# Altium schematic symbol library SCH - MCU - STM32 - ST MICROELECTRONICS STM32F411C(C-E)UX UFQFPN48.SchLib: 1 symbol
Pins are listed as number, name and electrical type; pins without a type are passive.

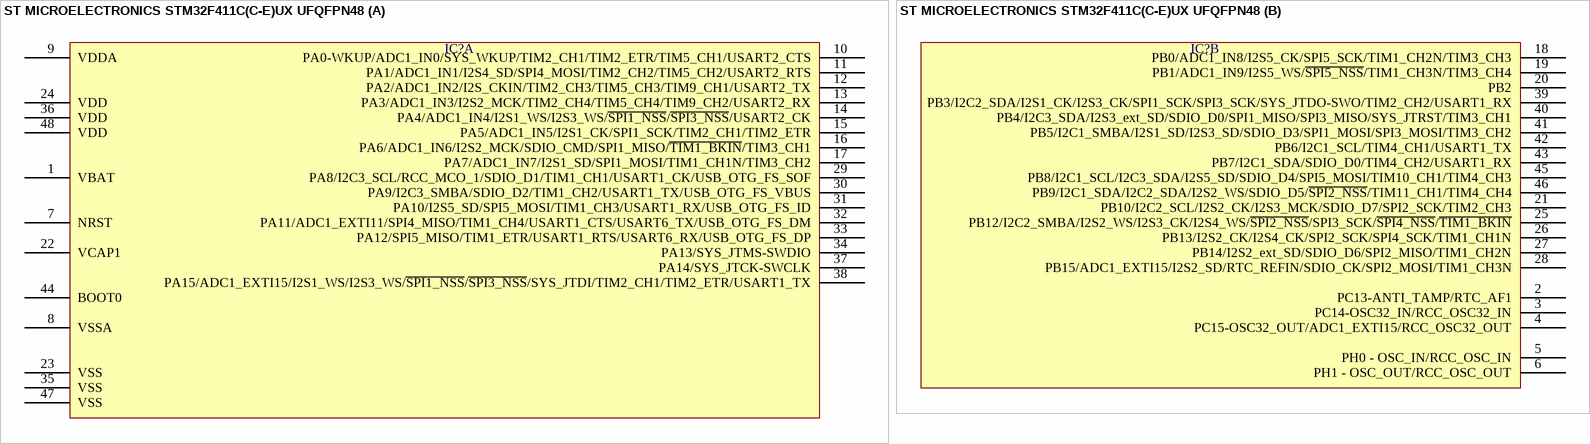
[diagram p0: symbol ST MICROELECTRONICS STM32F411C(C-E)UX UFQFPN48]

## ST MICROELECTRONICS STM32F411C(C-E)UX UFQFPN48
designator IC?  (value not drawn)
part A pins: 1 VBAT, 7 NRST, 8 VSSA, 9 VDDA, 10 PA0-WKUP/ADC1_IN0/SYS_WKUP/TIM2_CH1/TIM2_ETR/TIM5_CH1/USART2_CTS, 11 PA1/ADC1_IN1/I2S4_SD/SPI4_MOSI/TIM2_CH2/TIM5_CH2/USART2_RTS, 12 PA2/ADC1_IN2/I2S_CKIN/TIM2_CH3/TIM5_CH3/TIM9_CH1/USART2_TX, 13 PA3/ADC1_IN3/I2S2_MCK/TIM2_CH4/TIM5_CH4/TIM9_CH2/USART2_RX, 14 PA4/ADC1_IN4/I2S1_WS/I2S3_WS/~{SPI1_NSS}/~{SPI3_NSS}/USART2_CK, 15 PA5/ADC1_IN5/I2S1_CK/SPI1_SCK/TIM2_CH1/TIM2_ETR, 16 PA6/ADC1_IN6/I2S2_MCK/SDIO_CMD/SPI1_MISO/~{TIM1_BKIN}/TIM3_CH1, 17 PA7/ADC1_IN7/I2S1_SD/SPI1_MOSI/TIM1_CH1N/TIM3_CH2, 22 VCAP1, 23 VSS, 24 VDD, 29 PA8/I2C3_SCL/RCC_MCO_1/SDIO_D1/TIM1_CH1/USART1_CK/USB_OTG_FS_SOF, 30 PA9/I2C3_SMBA/SDIO_D2/TIM1_CH2/USART1_TX/USB_OTG_FS_VBUS, 31 PA10/I2S5_SD/SPI5_MOSI/TIM1_CH3/USART1_RX/USB_OTG_FS_ID, 32 PA11/ADC1_EXTI11/SPI4_MISO/TIM1_CH4/USART1_CTS/USART6_TX/USB_OTG_FS_DM, 33 PA12/SPI5_MISO/TIM1_ETR/USART1_RTS/USART6_RX/USB_OTG_FS_DP, 34 PA13/SYS_JTMS-SWDIO, 35 VSS, 36 VDD, 37 PA14/SYS_JTCK-SWCLK, 38 PA15/ADC1_EXTI15/I2S1_WS/I2S3_WS/~{SPI1_NSS}/~{SPI3_NSS}/SYS_JTDI/TIM2_CH1/TIM2_ETR/USART1_TX, 44 BOOT0, 47 VSS, 48 VDD
part B pins: 2 PC13-ANTI_TAMP/RTC_AF1, 3 PC14-OSC32_IN/RCC_OSC32_IN, 4 PC15-OSC32_OUT/ADC1_EXTI15/RCC_OSC32_OUT, 5 PH0 - OSC_IN/RCC_OSC_IN, 6 PH1 - OSC_OUT/RCC_OSC_OUT, 18 PB0/ADC1_IN8/I2S5_CK/SPI5_SCK/TIM1_CH2N/TIM3_CH3, 19 PB1/ADC1_IN9/I2S5_WS/~{SPI5_NSS}/TIM1_CH3N/TIM3_CH4, 20 PB2, 21 PB10/I2C2_SCL/I2S2_CK/I2S3_MCK/SDIO_D7/SPI2_SCK/TIM2_CH3, 25 PB12/I2C2_SMBA/I2S2_WS/I2S3_CK/I2S4_WS/~{SPI2_NSS}/SPI3_SCK/~{SPI4_NSS}/~{TIM1_BKIN}, 26 PB13/I2S2_CK/I2S4_CK/SPI2_SCK/SPI4_SCK/TIM1_CH1N, 27 PB14/I2S2_ext_SD/SDIO_D6/SPI2_MISO/TIM1_CH2N, 28 PB15/ADC1_EXTI15/I2S2_SD/RTC_REFIN/SDIO_CK/SPI2_MOSI/TIM1_CH3N, 39 PB3/I2C2_SDA/I2S1_CK/I2S3_CK/SPI1_SCK/SPI3_SCK/SYS_JTDO-SWO/TIM2_CH2/USART1_RX, 40 PB4/I2C3_SDA/I2S3_ext_SD/SDIO_D0/SPI1_MISO/SPI3_MISO/SYS_JTRST/TIM3_CH1, 41 PB5/I2C1_SMBA/I2S1_SD/I2S3_SD/SDIO_D3/SPI1_MOSI/SPI3_MOSI/TIM3_CH2, 42 PB6/I2C1_SCL/TIM4_CH1/USART1_TX, 43 PB7/I2C1_SDA/SDIO_D0/TIM4_CH2/USART1_RX, 45 PB8/I2C1_SCL/I2C3_SDA/I2S5_SD/SDIO_D4/SPI5_MOSI/TIM10_CH1/TIM4_CH3, 46 PB9/I2C1_SDA/I2C2_SDA/I2S2_WS/SDIO_D5/~{SPI2_NSS}/TIM11_CH1/TIM4_CH4